# Altium schematic symbol library RD-125A.SchLib: 1 symbol
Pins are listed as number, name and electrical type; pins without a type are passive.

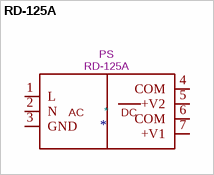
[diagram p0: symbol RD-125A]

## RD-125A
designator *  value RD-125A  Reference: PS
pins: 1 L, 2 N, 3 GND, 4 COM, 5 +V2, 6 COM, 7 +V1
text: AC; DC